# Altium footprint library Analyzer_FootprintLib.PcbLib: 19 footprints (part 1 of 2)
Each footprint in its own frame and in the unit in brackets; x right, y up, seen from the top. Pads: shape width x height; smd on the part's side, far side on the other; paste and mask are expansions set on the pad; w line width, h text height; cw(c..) or ccw(c..) is an arc to the next point about the centre after c.
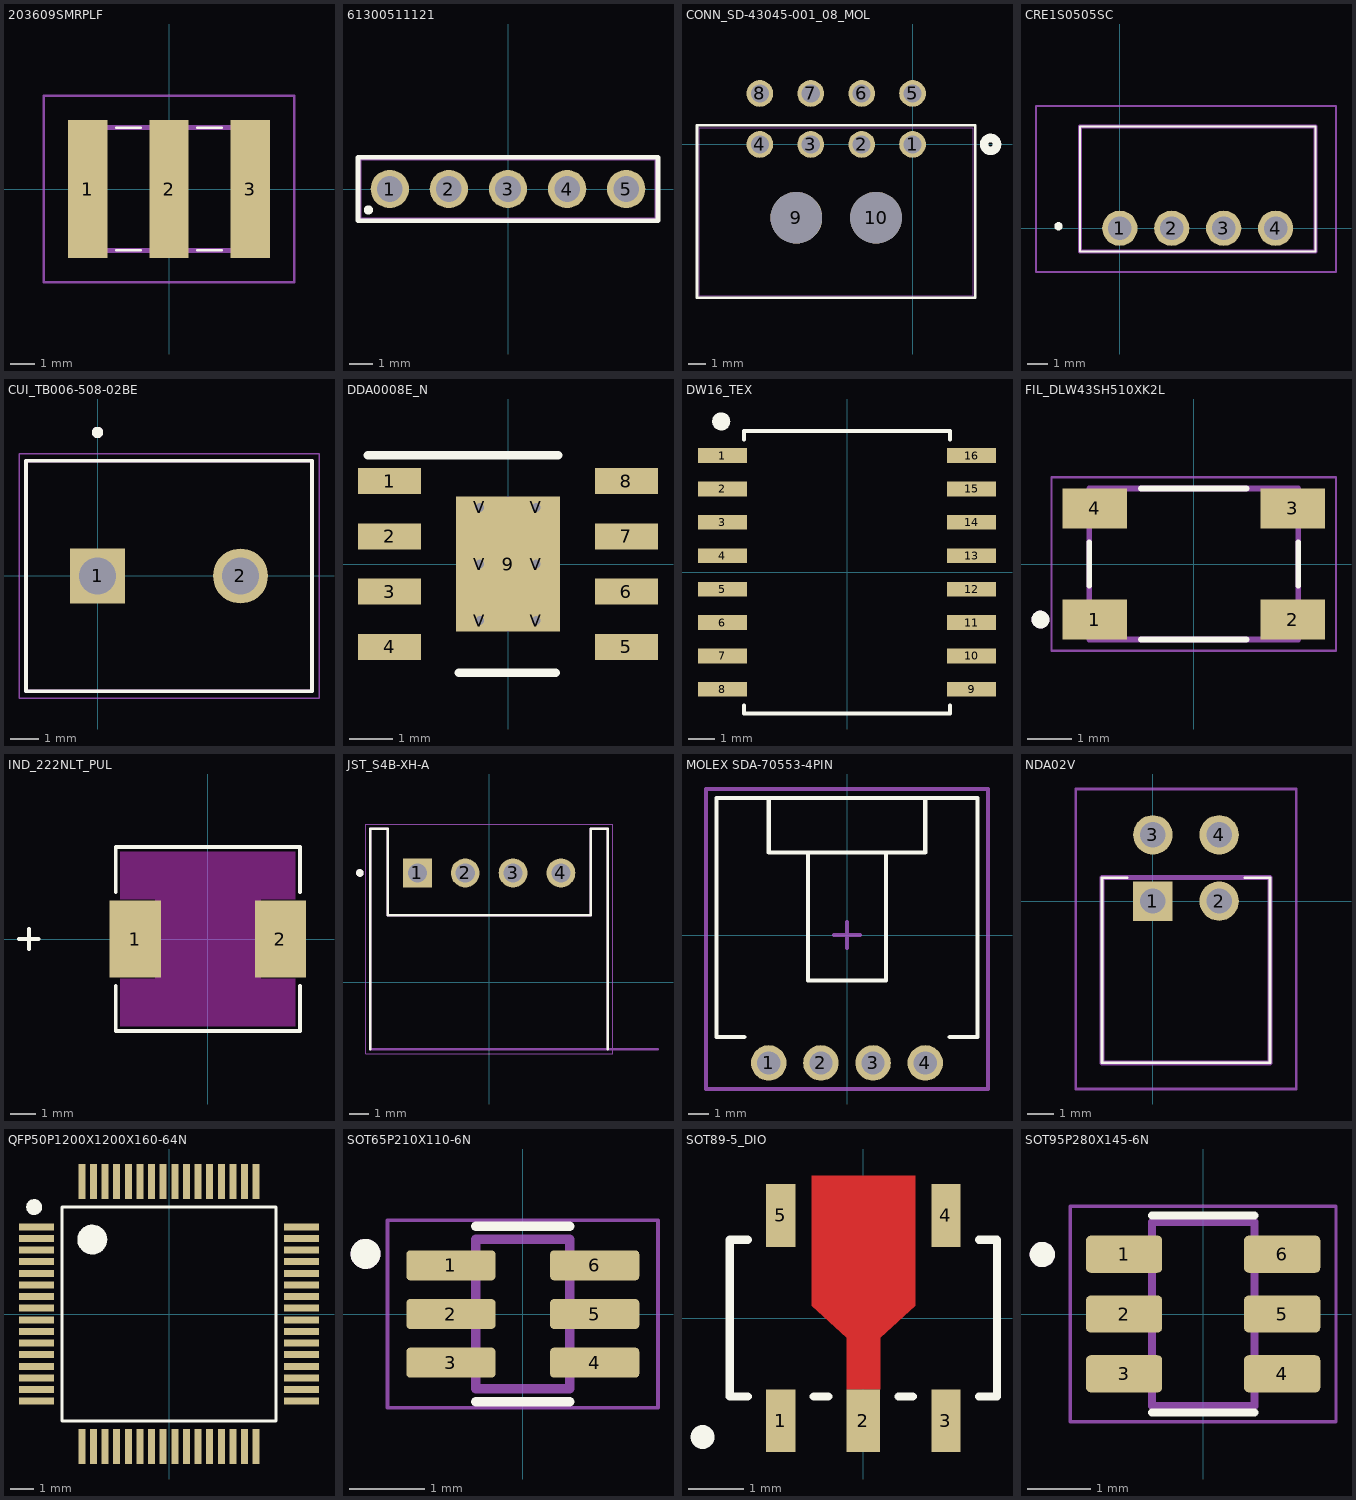
[diagram p0: the footprints below, top view; thin cyan lines are the x and y axes]

## 203609SMRPLF [mm]
pads (3):
  rect 1.6x5.6 smd: 1(-3.3,0) 2(0,0) 3(3.3,0)
Top Overlay:
  lines w0.1: -2.15,-2.5 -1.15,-2.5 ; -2.15,2.5 -1.15,2.5 ; 1.15,-2.5 2.15,-2.5 ; 1.15,2.5 2.15,2.5
Mechanical 15:
  lines w0.2: -3.65,-2.5 -3.65,2.5 3.65,2.5 3.65,-2.5 -3.65,-2.5
Mechanical 20:
  lines w0.1: -5.1,-3.8 -5.1,3.8 5.1,3.8 5.1,-3.8 -5.1,-3.8
3D body "2036-xx-sm.stp": height 4.98, standoff 0.01, extent -3.52,-2.481 3.492,2.481

## 61300511121 [mm]
pads (5):
  round 1.65 hole 1.1: 1(-5.08,0) 2(-2.54,0) 3(0,0) 4(2.54,0) 5(5.08,0)
Top Overlay:
  circle w0.2: c-6,-0.9 r0.1
  lines w0.2: -6.45,-1.37 6.45,-1.37 6.45,1.37 -6.45,1.37 -6.45,-1.37
Mechanical 13:
  lines w0.1: -6.35,-1.27 -6.35,1.27 6.35,1.27 6.35,-1.27 -6.35,-1.27
3D body "Download_STP_61300511121+%28rev1%29.stp": height 8.51, standoff -3.03, extent -6.35,-1.27 6.35,1.27

## CONN_SD-43045-001_08_MOL [mil]
pads (10):
  round 62 hole 42 paste-99999 mask+0: 1(0,0) 2(-118.11,0) 3(-236.22,0) 4(-354.33,0) 5(0,118.11) 6(-118.11,118.11) 7(-236.22,118.11) 8(-354.33,118.11)
  round 120 hole 120 unplated paste-99999 mask+0: 9(-269.69,-170.08) 10(-84.65,-170.08)
Top Overlay:
  circle w20: c180.83,0 r15
  lines w6: -500.17,-356.02 -500.17,43.98 145.83,43.98 145.83,-356.02 -500.17,-356.02
  text ".Designator" at -314.67,34.06 h50
Bottom Overlay:
  circle w20: c180.83,0 r15
Mechanical 1:
  circle w20: c0,0 r15
  lines w1: -495.17,-351.02 140.83,-351.02 140.83,38.98 -495.17,38.98 -495.17,-351.02
  text ".Designator" at -314.67,34.06 h50
3D body "430450802.stp": height 325.16, standoff -145.31, extent -495.91,-350.08 139.91,131.81

## CRE1S0505SC [mm]
pads (4):
  round 1.725 hole 1.15: 1(0,0) 2(2.54,0) 3(5.08,0) 4(7.62,0)
Top Overlay:
  lines w0.1: -1.955,-1.13 -1.955,4.97 9.575,4.97 9.575,-1.13 -1.955,-1.13
  lines w0.2: -3,0 cw(c-3,0.1) -3,0.2 cw(c-3,0.1) -3,0
Mechanical 15:
  lines w0.2: -1.955,-1.13 -1.955,4.97 9.575,4.97 9.575,-1.13 -1.955,-1.13
Mechanical 20:
  lines w0.1: -4.1,-2.13 -4.1,5.97 10.575,5.97 10.575,-2.13 -4.1,-2.13
3D body "SIP-4_CRE1S_11P53X6P1_MUR.step": height 7.72, standoff -3.76, extent -1.929,-1.145 9.601,4.955

## CUI_TB006-508-02BE [mm]
pads (2):
  rect 1.95x1.95 / inner round 1.95 / far side rect 1.95x1.95 hole 1.3: 1(0,0)
  round 1.95 hole 1.3: 2(5.08,0)
Top Overlay:
  circle w0.2: c0,5.1 r0.1
  lines w0.127: -2.54,-4.1 -2.54,4.1 7.62,4.1 7.62,-4.1 -2.54,-4.1
Mechanical 13:
  circle w0.2: c0,5.1 r0.1
  lines w0.127: -2.54,-4.1 -2.54,4.1 7.62,4.1 7.62,-4.1 -2.54,-4.1
Mechanical 15:
  lines w0.05: -2.79,-4.35 7.87,-4.35 7.87,4.35 -2.79,4.35 -2.79,-4.35
3D body "step_temp.STEP": height 10, standoff -3.8, extent -2.845,-2.362 7.815,5.838

## DDA0008E_N [mm]
pads (15):
  rect 1.45x0.6 smd paste+0 mask+0.051: 1(-2.725,1.905) 2(-2.725,0.635) 3(-2.725,-0.635) 4(-2.725,-1.905) 5(2.725,-1.905) 6(2.725,-0.635) 7(2.725,0.635) 8(2.725,1.905)
  rect 2.4x3.1 smd paste+0 mask+0.051: 9(0,0)
  round 0.5 hole 0.203 paste-2539.97 mask+0.051: V(-0.65,-1.3) V(-0.65,0) V(-0.65,1.3) V(0.65,-1.3) V(0.65,0) V(0.65,1.3)
Top Overlay:
  lines w0.2: -3.225,2.5 1.15,2.5 ; -1.125,-2.5 1.1,-2.5
  text ".Designator" at -3.492,-0.635 h1.27
3D body "LMR14020SSQDDARQ1.STEP": height 1.7, standoff 0, extent -2.977,-2.428 3.023,2.472

## DW16_TEX [mm]
pads (16):
  rect 1.874x0.558 smd paste+0 mask+0: 1(-4.734,4.445) 2(-4.734,3.175) 3(-4.734,1.905) 4(-4.734,0.635) 5(-4.734,-0.635) 6(-4.734,-1.905) 7(-4.734,-3.175) 8(-4.734,-4.445) 9(4.734,-4.445) 10(4.734,-3.175) 11(4.734,-1.905) 12(4.734,-0.635) 13(4.734,0.635) 14(4.734,1.905) 15(4.734,3.175) 16(4.734,4.445)
Top Overlay:
  circle w0.127: c-4.884,5.743 r0.1
  circle w0.127: c-4.784,5.743 r0.141
  circle w0.127: c-4.784,5.743 r0.1
  circle w0.127: c-4.784,5.743 r0.141
  circle w0.127: c-4.784,5.743 r0.224
  circle w0.127: c-4.784,5.743 r0.283
  lines w0.152: -3.924,-5.057 -3.924,-5.372 3.924,-5.372 3.924,-5.057 ; -3.924,5.057 -3.924,5.372 3.924,5.372 3.924,5.057
  text ".Designator" at -3.492,-0.635 h1.27
Mechanical 1:
  text ".Designator" at -3.492,-0.635 h1.27
3D body "DW16_TEX.step": height 2.64, standoff 0, extent -5.321,-5.245 5.321,5.245

## FIL_DLW43SH510XK2L [mm]
pads (4):
  rect 1.45x0.9 smd: 1(-2.225,-1.25) 2(2.225,-1.25) 3(2.225,1.25) 4(-2.225,1.25)
Top Overlay:
  circle w0.2: c-3.45,-1.25 r0.1
  lines w0.127: -2.35,-0.486 -2.35,0.486 ; -1.187,-1.7 1.187,-1.7 ; -1.187,1.7 1.187,1.7 ; 2.35,-0.486 2.35,0.486
Mechanical 13:
  circle w0.2: c-3.45,-1.25 r0.1
  lines w0.127: -2.35,-1.7 -2.35,1.7 2.35,1.7 2.35,-1.7 -2.35,-1.7
Mechanical 15:
  lines w0.05: -3.2,-1.95 3.2,-1.95 3.2,1.95 -3.2,1.95 -3.2,-1.95
3D body "DLW43SH510XK2L--3DModel-STEP-1.STEP": height 2.8, standoff 0, extent -2.25,-1.6 2.25,1.6

## IND_222NLT_PUL [mm]
pads (2):
  rect 2x2.997 smd paste+0 mask+0: 1(-2.825,0) 2(2.825,0)
Top Layer keep-out:
  region: -3.404,-3.404 -3.404,-1.549 3.404,-1.549 3.404,-3.404
  region: -3.404,1.549 -3.404,3.404 3.404,3.404 3.404,1.549
  region: -2.05,-1.549 -2.05,1.549 2.05,1.549 2.05,-1.549
Top Overlay:
  lines w0.152: -7.346,0 -6.584,0 ; -6.965,-0.381 -6.965,0.381 ; -3.581,-1.831 -3.581,-3.581 3.581,-3.581 3.581,-1.831 ; -3.581,1.831 -3.581,3.581 3.581,3.581 3.581,1.831
  text ".Designator" at -3.492,-0.635 h1.27
Mechanical 1:
  text ".Designator" at -3.492,-0.635 h1.27
3D body "IND_222NLT_PUL.step": height 3.05, standoff 0, extent -3.727,-3.454 3.727,3.454

## JST_S4B-XH-A [mm]
pads (4):
  rect 1.508x1.508 / inner round 1.508 / far side rect 1.508x1.508 hole 1: 1(-3.75,5.7)
  round 1.508 hole 1: 2(-1.25,5.7) 3(1.25,5.7) 4(3.75,5.7)
Top Overlay:
  circle w0.2: c-6.75,5.7 r0.1
  lines w0.127: -6.2,-3.5 -6.2,8 -5.3,8 -5.3,3.5 5.3,3.5 5.3,8 6.2,8 6.2,-3.5
Mechanical 13:
  circle w0.2: c-6.75,5.7 r0.1
  lines w0.127: 8.82,-3.5 6.2,-3.5 ; 6.2,-3.5 6.2,8 5.3,8 5.3,3.5 -5.3,3.5 -5.3,8 -6.2,8 -6.2,-3.5 6.2,-3.5
  text "PCB Edge" at 6.667,-3.203 h0.81
Mechanical 15:
  lines w0.05: -6.45,-3.75 6.45,-3.75 6.45,8.25 -6.45,8.25 -6.45,-3.75
3D body "step_temp.STEP": height 6.1, standoff -3.4, extent -6.2,-3.5 6.2,8

## MOLEX SDA-70553-4PIN [mm] "SL Right Angle Header W/LAtch & Trip-Pegs 2.54mm Centres"
height 6.99
pads (4):
  round 1.73 hole 1.13: 1(-3.81,-6.223) 2(-1.27,-6.223) 3(1.27,-6.223) 4(3.81,-6.223)
Top Overlay:
  lines w0.2: -5,-4.953 -6.35,-4.953 -6.35,6.677 6.35,6.677 6.35,-4.953 5,-4.953 ; -3.81,6.677 -3.81,4.019 3.81,4.019 3.81,6.677 ; -1.905,4.019 -1.905,-2.219 1.905,-2.219 1.905,4.019
Mechanical 15:
  lines w0.2: -0.635,0 0.635,0 ; 0,-0.635 0,0.635 ; -6.858,-7.493 -6.858,7.112 6.858,7.112 6.858,-7.493 -6.858,-7.493
3D body "705530003.STEP": height 6.98, standoff -3.3, extent -6.35,-6.923 6.35,6.666

## NDA02V [mm]
pads (4):
  rect 1.509x1.509 hole 0.97: 1(0,0)
  round 1.509 hole 0.97: 2(2.54,0) 3(0,2.54) 4(2.54,2.54)
Top Overlay:
  lines w0.1: -1.95,-6.2 -1.95,0.9 ; -1.95,-6.2 -1.95,0.9 ; -1.95,-6.2 4.49,-6.2 ; -1.95,-6.2 4.49,-6.2 ; -1.95,0.9 -0.98,0.9 -1.95,0.9 ; 4.49,-6.2 4.49,0.9 ; 4.49,-6.2 4.49,0.9 ; 4.49,0.9 3.52,0.9 4.49,0.9
Mechanical 15:
  lines w0.2: -1.95,-6.2 4.49,-6.2 4.49,0.9 -1.95,0.9 -1.95,-6.2
Mechanical 20:
  lines w0.1: -2.95,-7.2 5.49,-7.2 5.49,4.294 -2.95,4.294 -2.95,-7.2
3D body "NDA-02V.stp": height 9.9, standoff -3.04, extent -1.919,-7.323 4.521,2.7

## QFP50P1200X1200X160-64N [mm]
pads (64):
  rect 1.5x0.3 smd: 1(-5.7,3.75) 2(-5.7,3.25) 3(-5.7,2.75) 4(-5.7,2.25) 5(-5.7,1.75) 6(-5.7,1.25) 7(-5.7,0.75) 8(-5.7,0.25) 9(-5.7,-0.25) 10(-5.7,-0.75) 11(-5.7,-1.25) 12(-5.7,-1.75) 13(-5.7,-2.25) 14(-5.7,-2.75) 15(-5.7,-3.25) 16(-5.7,-3.75) 33(5.7,-3.75) 34(5.7,-3.25) 35(5.7,-2.75) 36(5.7,-2.25) 37(5.7,-1.75) 38(5.7,-1.25) 39(5.7,-0.75) 40(5.7,-0.25) 41(5.7,0.25) 42(5.7,0.75) 43(5.7,1.25) 44(5.7,1.75) 45(5.7,2.25) 46(5.7,2.75) 47(5.7,3.25) 48(5.7,3.75)
  rect 0.3x1.5 smd: 17(-3.75,-5.7) 18(-3.25,-5.7) 19(-2.75,-5.7) 20(-2.25,-5.7) 21(-1.75,-5.7) 22(-1.25,-5.7) 23(-0.75,-5.7) 24(-0.25,-5.7) 25(0.25,-5.7) 26(0.75,-5.7) 27(1.25,-5.7) 28(1.75,-5.7) 29(2.25,-5.7) 30(2.75,-5.7) 31(3.25,-5.7) 32(3.75,-5.7) 49(3.75,5.7) 50(3.25,5.7) 51(2.75,5.7) 52(2.25,5.7) 53(1.75,5.7) 54(1.25,5.7) 55(0.75,5.7) 56(0.25,5.7) 57(-0.25,5.7) 58(-0.75,5.7) 59(-1.25,5.7) 60(-1.75,5.7) 61(-2.25,5.7) 62(-2.75,5.7) 63(-3.25,5.7) 64(-3.75,5.7)
Top Overlay:
  circle w0.127: c-3.3,3.2 r0.141
  circle w0.127: c-3.302,3.175 r0.1
  circle w0.127: c-3.3,3.2 r0.224
  circle w0.127: c-3.3,3.073 r0.141
  circle w0.127: c-5.9,4.6 r0.1
  circle w0.127: c-5.8,4.6 r0.141
  circle w0.127: c-5.8,4.6 r0.1
  circle w0.127: c-5.8,4.6 r0.141
  circle w0.127: c-5.8,4.6 r0.224
  circle w0.127: c-5.8,4.6 r0.283
  circle w0.127: c-3.302,3.048 r0.1
  circle w0.127: c-3.3,3.2 r0.361
  circle w0.127: c-3.3,3.2 r0.283
  circle w0.127: c-3.3,3.2 r0.424
  circle w0.127: c-3.3,3.2 r0.5
  circle w0.127: c-3.3,3.2 r0.566
  circle w0.127: c-3.3,3.2 r0.583
  lines w0.127: -4.6,-4.6 -4.6,4.6 4.6,4.6 4.6,-4.6 -4.6,-4.6
3D body "LQFP64-10x10mm.step": height 1.6, standoff 0, extent -5.997,-5.997 5.997,5.997

## SOT65P210X110-6N [mm]
height 1.1
pads (6):
  rrect25% 1.19x0.4 smd: 1(-0.96,0.65) 2(-0.96,0) 3(-0.96,-0.65) 4(0.96,-0.65) 5(0.96,0) 6(0.96,0.65)
Top Overlay:
  circle w0.2: c-2.1,0.802 r0.1
  lines w0.127: -0.625,-1.17 0.625,-1.17 ; -0.625,1.17 0.625,1.17
Mechanical 13:
  circle w0.2: c-2.1,0.802 r0.1
  lines w0.127: -0.625,-1 -0.625,1 0.625,1 0.625,-1 -0.625,-1
Mechanical 15:
  lines w0.05: -1.805,-1.25 -1.805,1.25 1.805,1.25 1.805,-1.25 -1.805,-1.25
3D body "step_temp.STEP": height 1.1, standoff 0, extent -1.05,-1 1.05,1

## SOT89-5_DIO [mil]
pads (5):
  rect 21x44.87 smd paste+0 mask+0: 1(-59,-73.44) 3(59,-73.44) 4(59,73.44) 5(-59,73.44)
  rect 24x44.87 smd paste+0 mask+0: 2(0,-73.44)
Top Layer:
  region: 12,-51 -12,-51 -12,-14 -36.98,9.02 -36.98,101.78 -0.98,101.78 0.98,101.78 36.98,101.78 36.98,9.02 12,-14
Top Overlay:
  circle w9: c-115,-85 r4
  lines w6: -82.6,-56 -95.5,-56 -95.5,56 -82.6,56 ; -35.4,-56 -25.1,-56 ; 25.1,-56 35.4,-56 ; 82.6,-56 95.5,-56 95.5,56 82.6,56
  text ".Designator" at -137.5,-25 h50
Top Paste:
  region: 12,-51 -12,-51 -12,-14 -36.98,9.02 -36.98,101.78 -0.98,101.78 0.98,101.78 36.98,101.78 36.98,9.02 12,-14
Top Solder:
  region: 12,-51 -12,-51 -12,-14 -36.98,9.02 -36.98,101.78 -0.98,101.78 0.98,101.78 36.98,101.78 36.98,9.02 12,-14
3D body "SOT89-5_DIO.step": height 65.12, standoff 0, extent -90.51,-87.99 90.51,87.99

## SOT95P280X145-6N [mm]
pads (6):
  rrect25% 1.21x0.59 smd: 1(-1.255,0.95) 2(-1.255,0) 3(-1.255,-0.95) 4(1.255,-0.95) 5(1.255,0) 6(1.255,0.95)
Top Overlay:
  circle w0.2: c-2.555,0.945 r0.1
  lines w0.127: -0.813,-1.565 0.813,-1.565 ; -0.813,1.565 0.813,1.565
Mechanical 13:
  circle w0.2: c-2.555,0.945 r0.1
  lines w0.127: -0.813,-1.462 -0.813,1.462 0.813,1.462 0.813,-1.462 -0.813,-1.462
Mechanical 15:
  lines w0.05: -2.11,-1.713 2.11,-1.713 2.11,1.713 -2.11,1.713 -2.11,-1.713
3D body "step_temp.STEP": height 1.42, standoff -0.03, extent -1.4,-1.462 1.4,1.462